# Altium footprint library DIP14.PcbLib: 1 footprints
Each footprint in its own frame and in the unit in brackets; x right, y up, seen from the top. Pads: shape width x height; smd on the part's side, far side on the other; paste and mask are expansions set on the pad; w line width, h text height; cw(c..) or ccw(c..) is an arc to the next point about the centre after c.
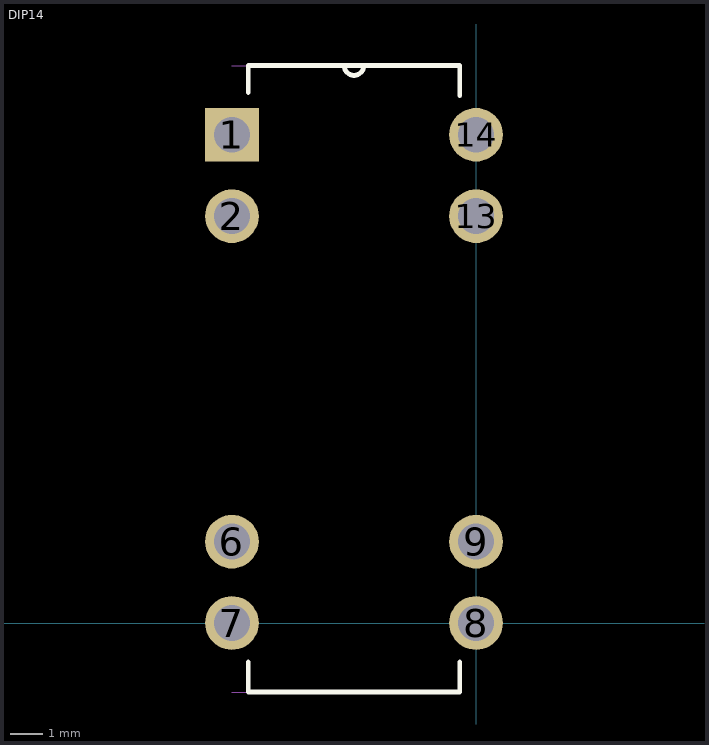
[diagram p0: the footprint, top view; thin cyan lines are the x and y axes]

## DIP14 [mil] "8pin DIP14"
pads (8):
  rect 66x66 / inner round 66 / far side rect 66x66 hole 44: 1(-300,600)
  round 66 hole 44: 2(-300,500) 6(-300,100) 7(-300,0) 8(0,0) 9(0,100) 13(0,500) 14(0,600)
Top Overlay:
  lines w6: -280,-48 -280,-85 -20,-85 -20,-48 ; -280,652 -280,685 -162,685 ; -20,648 -20,685 -138,685 ; -162,685 ccw(c-150,685) -138,685 ; -162,685 -138,685
Assembly Top:
  lines w0: -300,-85 -40,-85 ; -300,685 -182,685 -158,685 -40,685 ; -162,685 ccw(c-150,685) -138,685 ; -322,-22 -322,22 -280,22 -280,-22 -322,-22 ; -322,78 -322,122 -280,122 -280,78 -322,78 ; -322,478 -322,522 -280,522 -280,478 -322,478 ; -322,578 -322,622 -280,622 -280,578 -322,578 ; -20,-22 -20,22 22,22 22,-22 -20,-22 ; -20,78 -20,122 22,122 22,78 -20,78 ; -20,478 -20,522 22,522 22,478 -20,478 ; -20,578 -20,622 22,622 22,578 -20,578
3D body "EDR201A0500.step": height 347.64, standoff 19.69, extent -333.21,-85.04 33.21,685.04